# Altium footprint library Passives.PcbLib: 48 footprints (part 2 of 3)
Each footprint in its own frame and in the unit in brackets; x right, y up, seen from the top. Pads: shape width x height; smd on the part's side, far side on the other; paste and mask are expansions set on the pad; w line width, h text height; cw(c..) or ccw(c..) is an arc to the next point about the centre after c.
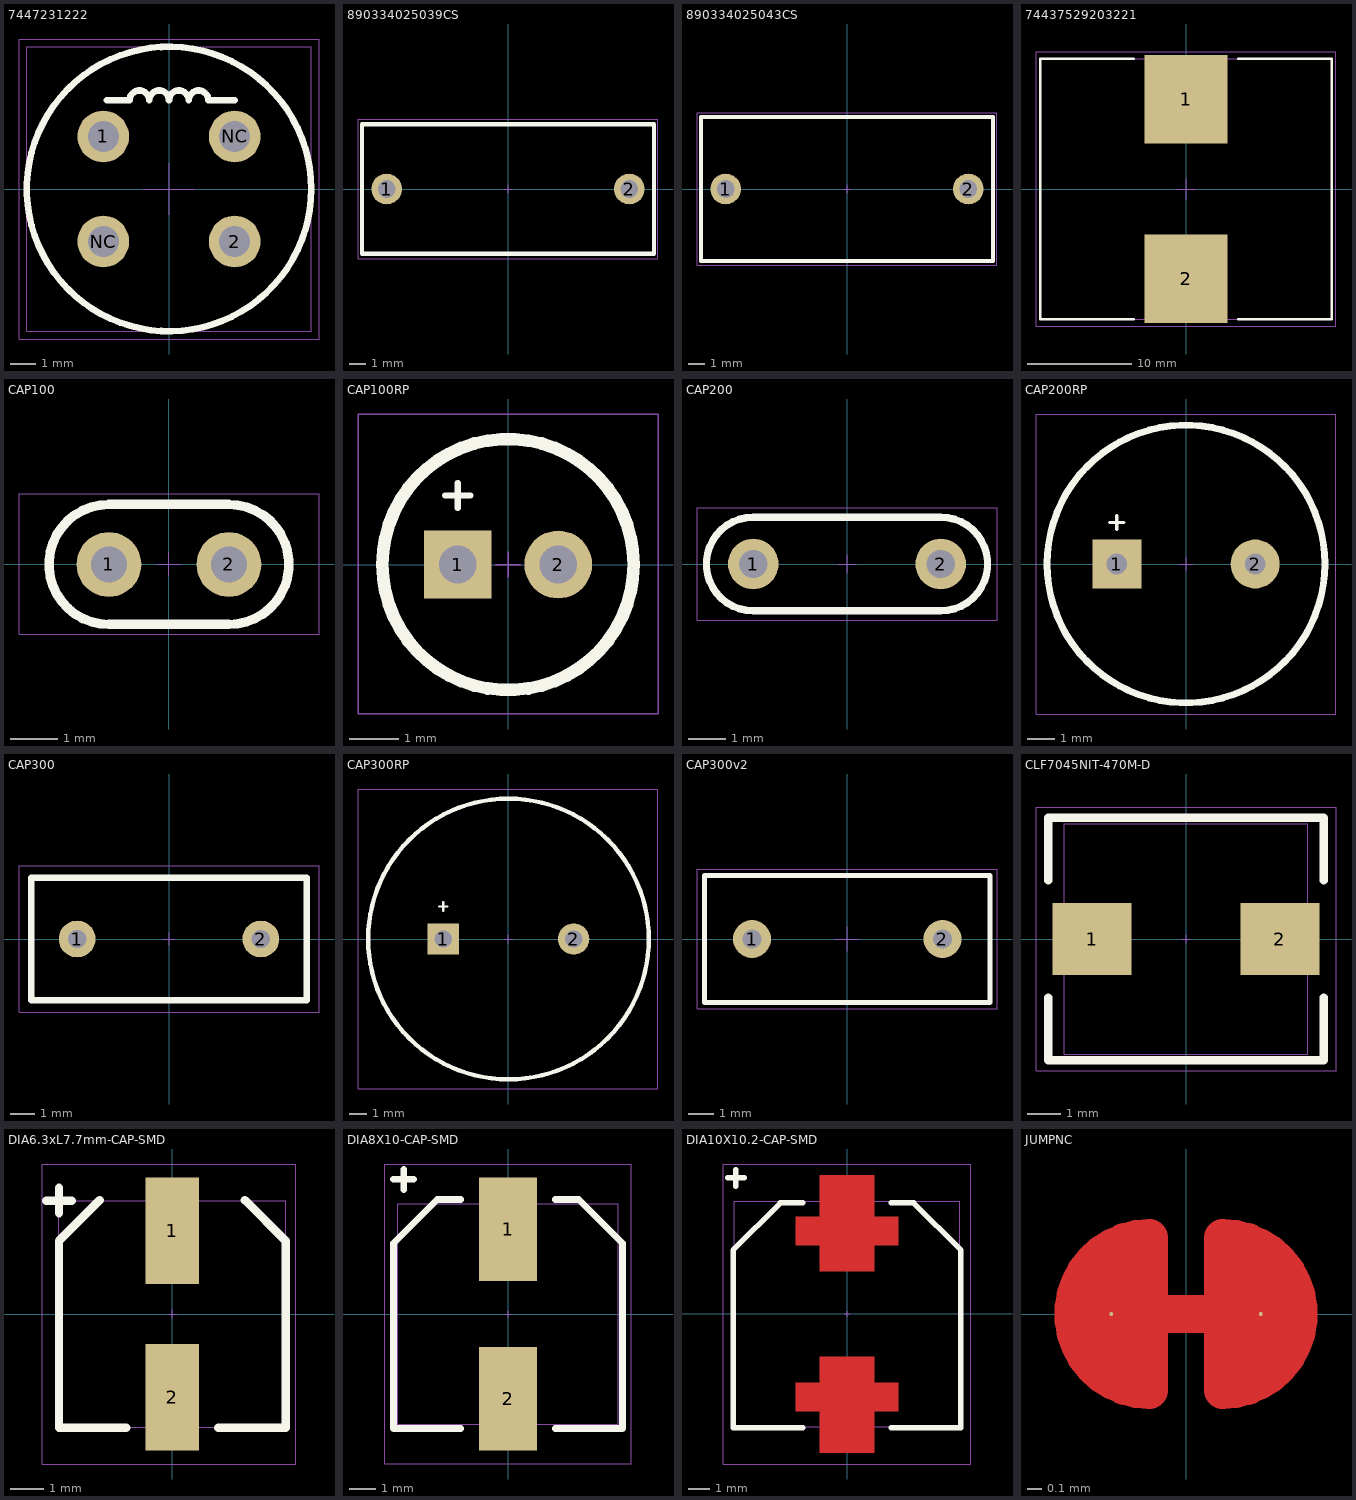
[diagram p1: the footprints below, top view; thin cyan lines are the x and y axes]

## 7447231222 [mm] "Choke Inductor 10.5mm"
pads (4):
  round 2 hole 1.2: 1(-2.54,2.032) 2(2.54,-2.032) NC(-2.54,-2.032) NC(2.54,2.032)
Top Overlay:
  circle w0.254: c0,0 r5.5
  lines w0.254: -2.413,3.429 -1.524,3.429 cw(c-1.143,3.429) -0.762,3.429 cw(c-0.381,3.429) 0,3.429 cw(c0.381,3.429) 0.762,3.429 cw(c1.143,3.429) 1.524,3.429 2.54,3.429
Top Courtyard:
  lines w0.025: -5.8,-5.8 5.8,-5.8 5.8,5.8 -5.8,5.8 -5.8,-5.8
Top Assembly:
  lines w0.025: -1,0 1,0 ; 0,-1 0,1 ; -5.5,-5.5 5.5,-5.5 5.5,5.5 -5.5,5.5 -5.5,-5.5
3D body "Download_STP_WE-TIF_1018 (rev1).stp": height 18.01, standoff -3.49, extent -5.4,-5.4 5.4,5.4

## 890334025039CS [mm]
pads (2):
  round 1.9 hole 1.1: 1(-7.5,0) 2(7.5,0)
Top Overlay:
  lines w0.254: -9.017,-4 -9.017,4 9.017,4 9.017,-4 -9.017,-4
Top Courtyard:
  lines w0.025: -9.271,-4.3 -9.271,4.3 9.271,4.3 9.271,-4.3 -9.271,-4.3
Top Assembly:
  lines w0.025: -0.254,0 0.254,0 ; 0,-0.254 0,0.254 ; -9,-4 9,-4 9,4 -9,4 -9,-4
3D body "o180348v246 Download_STP_890334025039xx (rev1).stp": height 14.01, standoff -3.99, extent -9,-4 9,4

## 890334025043CS [mm]
pads (2):
  round 1.9 hole 1.1: 1(-7.5,0) 2(7.5,0)
Top Overlay:
  lines w0.254: -9.017,-4.445 -9.017,4.445 9.017,4.445 9.017,-4.445 -9.017,-4.445
Top Courtyard:
  lines w0.025: -9.271,-4.699 -9.271,4.699 9.271,4.699 9.271,-4.699 -9.271,-4.699
Top Assembly:
  lines w0.025: -0.254,0 0.254,0 ; 0,-0.254 0,0.254 ; -9,-4.5 -9,4.5 9,4.5 9,-4.5 -9,-4.5
3D body "o180350v246 Download_STP_890334025043xx (rev1).stp": height 15.01, standoff -3.99, extent -9,-4.5 9,4.5

## 74437529203221 [mm] "Choke Inductor SMD"
pads (2):
  rect 8x8.5 smd: 1(0,8.636) 2(0,-8.636)
Top Overlay:
  lines w0.254: -5,-12.5 -14,-12.5 -14,12.5 -5,12.5 ; 5,-12.5 14,-12.5 14,12.5 5,12.5
Top Courtyard:
  lines w0.025: -14.4,-13.2 14.4,-13.2 14.4,13.2 -14.4,13.2 -14.4,-13.2
Top Assembly:
  lines w0.025: -1,0 1,0 ; 0,-1 0,1 ; -14,-12.5 -14,12.5 14,12.5 14,-12.5 -14,-12.5
3D body "Download_STP_WE-HCF-2920-Round (rev1).stp": height 20, standoff 0, extent -13.65,-11.548 13.65,11.548

## CAP100 [mil]
pads (2):
  round 54 hole 30: 1(-50,0) 2(50,0)
Top Overlay:
  lines w7.87: -50,-50 cw(c-50,0) -50,50 50,50 cw(c50,0) 50,-50 -50,-50
Top Courtyard:
  lines w1: -124.93,-58 125.06,-58 125.06,58.79 -124.93,58.79 -124.93,-58
Top Assembly:
  lines w1: -10,0 10,0 ; 0,-10 0,10
3D body "CAP100.step": height 240.98, standoff -70.87, extent -114.93,-33 115.06,33.79

## CAP100RP [mil] "Body diameter 5mm"
pads (2):
  rect 54x54 hole 30: 1(-40,0)
  round 54 hole 30: 2(40,0)
Top Overlay:
  circle w10: c0,0 r100
  lines w5: -50,55 -30,55 ; -40,45 -40,65
Top Courtyard:
  lines w1: -119.43,-119 119.43,-119 119.43,119.85 -119.43,119.85 -119.43,-119
Top Assembly:
  lines w1: -10,0 10,0 ; 0,-10 0,10
3D body "User Library-Cap electro 5x11x2mm.step": height 453.76, standoff -128.81, extent -99.43,-99 99.43,99.85

## CAP200 [mil]
pads (2):
  round 54 hole 30: 1(-100,0) 2(100,0)
Top Overlay:
  lines w7.87: -100,-50 cw(c-100,0) -100,50 100,50 cw(c100,0) 100,-50 -100,-50
Top Courtyard:
  lines w1: -160,-60 -160,60 160,60 160,-60 -160,-60
Top Assembly:
  lines w1: -10,0 10,0 ; 0,-10 0,10
3D body "CAP200.step": height 245.67, standoff -54.33, extent -110,-46 110,44

## CAP200RP [mm] "Body Diameter 10.33mm"
pads (2):
  rect 1.8x1.8 hole 0.762: 1(-2.54,0)
  round 1.8 hole 0.762: 2(2.54,0)
Top Overlay:
  circle w0.254: c0,0 r5.1
  lines w0.127: -2.794,1.524 -2.286,1.524 ; -2.54,1.27 -2.54,1.778
Top Courtyard:
  lines w0.025: -5.508,-5.508 -5.508,5.508 5.508,5.508 5.508,-5.508 -5.508,-5.508
Top Assembly:
  lines w0.025: -0.254,0 0.254,0 ; 0,-0.254 0,0.254
3D body "ECA1HM471.STEP": height 20, standoff -17, extent -5,-5 5,5

## CAP300 [mil]
pads (2):
  round 60 hole 30: 1(-150,0) 2(150,0)
Top Overlay:
  lines w10: -225,-100 225,-100 225,100 -225,100 -225,-100
Top Courtyard:
  lines w1: -245,-120 -245,120 245,120 245,-120 -245,-120
Top Assembly:
  lines w1: -10,0 10,0 ; 0,-10 0,10
3D body "SV04_AVX.step": height 220, standoff -175, extent -225,-100 225,100

## CAP300RP [mil] "Body Diameter 16mm"
pads (2):
  rect 72x72 hole 40: 1(-150,0)
  round 72 hole 40: 2(150,0)
Top Overlay:
  circle w10: c0,0 r322.83
  lines w5: -160,75 -140,75 ; -150,65 -150,85
Top Courtyard:
  lines w1: -345,-345 -345,345 342.83,345 342.83,-345 -345,-345
Top Assembly:
  lines w1: -10,0 10,0 ; 0,-10 0,10
3D body "UFW1V332MHD.STEP": height 1476.88, standoff -747.53, extent -314.96,-314.96 314.96,314.96

## CAP300v2 [mil]
pads (2):
  round 60 hole 30: 1(-149.61,0) 2(150.39,0)
Top Overlay:
  lines w7.87: -224.61,-100 225.39,-100 225.39,100 -224.61,100 -224.61,-100
Top Courtyard:
  lines w1: -236.22,-110.24 -236.22,110.24 236.22,110.24 236.22,-110.24 -236.22,-110.24
Top Assembly:
  lines w1: -19.68,0 19.68,0 ; 0,-19.68 0,19.68 ; -224.41,-98.43 -224.41,98.43 224.41,98.43 224.41,-98.43 -224.41,-98.43
3D body "SV04_AVX.step": height 220, standoff -175, extent -224.61,-100 225.39,100

## CLF7045NIT-470M-D [mm] "NonStandard Inductor"
pads (2):
  rect 2.4x2.2 smd: 1(-2.85,0) 2(2.85,0)
Top Overlay:
  lines w0.254: -4.191,-1.778 -4.191,-3.683 4.191,-3.683 4.191,-1.778 ; -4.191,1.778 -4.191,3.683 4.191,3.683 4.191,1.778
Top Courtyard:
  lines w0.025: -4.558,-4.008 -4.558,4.008 4.558,4.008 4.558,-4.008 -4.558,-4.008
Top Assembly:
  lines w0.025: -0.127,0 0.127,0 ; 0,-0.127 0,0.127 ; -3.7,-3.5 3.7,-3.5 3.7,3.5 -3.7,3.5 -3.7,-3.5
3D body "CLF7045NIT-470M-D.STEP": height 4.8, standoff 0, extent -3.7,-3.5 3.7,3.5

## DIA6.3xL7.7mm-CAP-SMD [mm]
pads (2):
  rect 1.6x3.2 smd: 1(0,2.5) 2(0,-2.5)
Top Overlay:
  lines w0.254: -3.781,3.4 -3.019,3.4 ; -3.4,2.198 -3.4,-3.418 -1.378,-3.418 ; -3.4,3.019 -3.4,3.781 ; -3.398,2.198 -2.178,3.418 ; 1.378,-3.418 3.4,-3.418 3.4,2.198 ; 2.178,3.418 3.398,2.198
Top Courtyard:
  lines w0.025: -3.9,-4.5 -3.9,4.5 3.7,4.5 3.7,-4.5 -3.9,-4.5
Top Assembly:
  lines w0.025: -0.127,0 0.127,0 ; 0,-0.127 0,0.127 ; -3.4,-3.4 -3.4,3.4 3.4,3.4 3.4,-3.4 -3.4,-3.4
3D body "EEE-FNC271XUP.STEP": height 7.7, standoff 0, extent -3.3,-3.65 3.3,3.65

## DIA8X10-CAP-SMD [mm]
pads (2):
  rect 2.2x3.9 smd: 1(0,3.2) 2(0,-3.2)
Top Overlay:
  lines w0.254: -4.318,5.08 -3.556,5.08 ; -3.937,4.699 -3.937,5.461 ; -1.778,-4.318 -4.318,-4.318 -4.318,2.667 -2.667,4.318 -1.778,4.318 ; 1.778,-4.318 4.318,-4.318 4.318,2.667 2.667,4.318 1.778,4.318
Top Courtyard:
  lines w0.025: -4.658,-5.658 4.658,-5.658 4.658,5.658 -4.658,5.658 -4.658,-5.658
Top Assembly:
  lines w0.025: -0.127,0 0.127,0 ; 0,-0.127 0,0.127 ; -4.15,-4.15 -4.15,4.15 4.15,4.15 4.15,-4.15 -4.15,-4.15
3D body "UUD1E221MNL1GS--3DModel-STEP-56544.STEP": height 10.85, standoff 0.05, extent -4.15,-4.45 4.15,4.45

## DIA10X10.2-CAP-SMD [mil]
pads (2):
  round 1 smd: 1(0,163.39) 2(0,-163.39)
Top Layer:
  region: 92.52,-124.02 92.52,-175.2 49.21,-175.2 49.21,-250 -49.21,-250 -49.21,-175.2 -92.52,-175.2 -92.52,-124.02 -49.21,-124.02 -49.21,-76.77 49.21,-76.77 49.21,-124.02
  region: -92.52,124.02 -92.52,175.2 -49.21,175.2 -49.21,250 49.21,250 49.21,175.2 92.52,175.2 92.52,124.02 49.21,124.02 49.21,76.77 -49.21,76.77 -49.21,124.02
Top Overlay:
  lines w10: -215,245 -185,245 ; -200,230 -200,260 ; -80,-205 -205,-205 -205,115 -120,200 -80,200 ; 80,-205 205,-205 205,115 120,200 80,200
Top Courtyard:
  lines w1: -222.76,-270 -222.76,270 222.76,270 222.76,-270 -222.76,-270
Top Assembly:
  lines w1: -5,0 5,0 ; 0,-5 0,5 ; -202.76,-202.76 202.76,-202.76 202.76,202.76 -202.76,202.76 -202.76,-202.76
3D body "EEE-TG1J101UP.STEP": height 405.55, standoff 3.94, extent -202.76,-230.31 202.76,230.31

## JUMPNC [mil]
pads (2):
  round 1 smd paste-99999 mask+9.84: 1(-19.68,0) 2(19.68,0)
Top Layer:
  region: 9.69,20 11.65,20 15.52,19.23 19.16,17.72 22.43,15.54 25.22,12.75 27.41,9.47 28.92,5.83 29.68,1.97 29.68,-1.97 28.92,-5.83 27.41,-9.47 25.22,-12.75 22.43,-15.54 19.16,-17.72 15.52,-19.23 11.65,-20 9.69,-20
  region: -9.69,-20 -11.65,-20 -15.52,-19.23 -19.16,-17.72 -22.43,-15.54 -25.22,-12.75 -27.41,-9.47 -28.92,-5.83 -29.68,-1.97 -29.68,1.97 -28.92,5.83 -27.41,9.47 -25.22,12.75 -22.43,15.54 -19.16,17.72 -15.52,19.23 -11.65,20 -9.69,20
  lines w10: -19.68,0 19.68,0 ; -9.69,-20 cw(c-9.69,0) -9.68,20 -9.69,-20 ; 9.68,-20 ccw(c9.69,0) 9.69,20 9.69,-20
Top Solder:
  region: -9.69,-29.84 -13.61,-29.84 -21.2,-27.81 -28.01,-23.88 -33.56,-18.32 -37.49,-11.52 -39.53,-3.93 -39.53,3.93 -37.49,11.52 -33.56,18.32 -28.01,23.88 -21.2,27.81 -13.61,29.84 -9.68,29.84 -9.69,29.84 9.69,29.84 13.61,29.84 21.2,27.81 28.01,23.88 33.56,18.32 37.49,11.52 39.53,3.93 39.53,-3.93 37.49,-11.52 33.56,-18.32 28.01,-23.88 21.2,-27.81 13.61,-29.84 9.69,-29.84